# Altium footprint library Библиотека компонентов.PcbLib: 3 footprints
Each footprint in its own frame and in the unit in brackets; x right, y up, seen from the top. Pads: shape width x height; smd on the part's side, far side on the other; paste and mask are expansions set on the pad; w line width, h text height; cw(c..) or ccw(c..) is an arc to the next point about the centre after c.
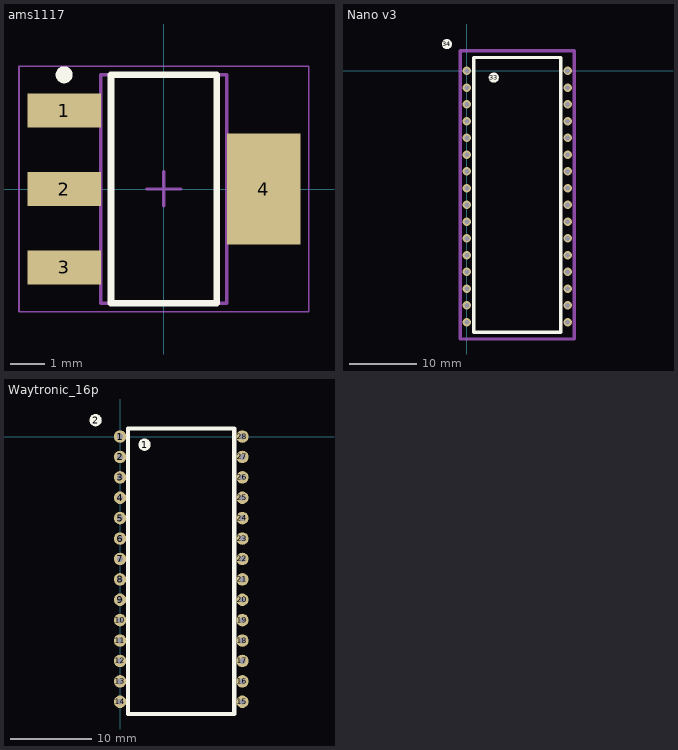
[diagram p0: the footprints below, top view; thin cyan lines are the x and y axes]

## ams1117 [mm] "SOT223, 4-Leads, Body 6,50x7,00mm (avg), Pitch 2,30mm, IPC Medium Density"
height 1.8
pads (4):
  rect 2.15x1 smd: 1(-2.925,2.3) 2(-2.925,0) 3(-2.925,-2.3)
  rect 2.15x3.25 smd: 4(2.925,0)
Top Overlay:
  circle w0.25: c-2.925,3.35 r0.125
  lines w0.2: -1.55,-3.35 1.55,-3.35 1.55,3.35 -1.55,3.35 -1.55,-3.35
Mechanical 13:
  lines w0.1: -1.85,-3.35 1.85,-3.35 1.85,3.35 -1.85,3.35 -1.85,-3.35
Mechanical 15:
  lines w0.05: -4.25,-3.6 4.25,-3.6 4.25,3.6 -4.25,3.6 -4.25,-3.6
  lines w0.1: -0.5,0 0.5,0 ; 0,-0.5 0,0.5
3D body: height 1.8, standoff 0.02, extent -1.85,-3.35 1.85,3.35

## Nano v3 [mil]
pads (2):
  round 60 on Top Overlay: 33(157.48,-39.37) 34(-118.11,157.48)
via 0,0 diameter 50 hole 28
via 0,-98.43 diameter 50 hole 28
via 0,-196.85 diameter 50 hole 28
via 0,-295.28 diameter 50 hole 28
via 0,-393.7 diameter 50 hole 28
via 0,-492.13 diameter 50 hole 28
via 0,-590.55 diameter 50 hole 28
via 0,-688.98 diameter 50 hole 28
via 0,-787.4 diameter 50 hole 28
via 0,-885.83 diameter 50 hole 28
via 0,-984.25 diameter 50 hole 28
via 0,-1082.68 diameter 50 hole 28
via 0,-1181.1 diameter 50 hole 28
via 0,-1279.53 diameter 50 hole 28
via 0,-1377.95 diameter 50 hole 28
via 0,-1476.38 diameter 50 hole 28
via 590.55,0 diameter 50 hole 28
via 590.55,-98.43 diameter 50 hole 28
via 590.55,-196.85 diameter 50 hole 28
via 590.55,-295.28 diameter 50 hole 28
via 590.55,-393.7 diameter 50 hole 28
via 590.55,-492.13 diameter 50 hole 28
via 590.55,-590.55 diameter 50 hole 28
via 590.55,-688.98 diameter 50 hole 28
via 590.55,-787.4 diameter 50 hole 28
via 590.55,-885.83 diameter 50 hole 28
via 590.55,-984.25 diameter 50 hole 28
via 590.55,-1082.68 diameter 50 hole 28
via 590.55,-1181.1 diameter 50 hole 28
via 590.55,-1279.53 diameter 50 hole 28
via 590.55,-1377.95 diameter 50 hole 28
via 590.55,-1476.38 diameter 50 hole 28
Top Overlay:
  lines w19.68: 39.37,-1535.43 39.37,78.74 551.18,78.74 551.18,-1535.43 39.37,-1535.43
Mechanical 1:
  lines w19.68: -39.37,-1574.8 -39.37,118.11 629.92,118.11 629.92,-1574.8 -39.37,-1574.8

## Waytronic_16p [mil]
pads (30):
  round 60 smd: 1(0,0) 2(0,-98.43) 3(0,-196.85) 4(0,-295.28) 5(0,-393.7) 6(0,-492.13) 7(0,-590.55) 8(0,-688.98) 9(0,-787.4) 10(0,-885.83) 11(0,-984.25) 12(0,-1082.68) 13(0,-1181.1) 14(0,-1279.53) 15(590.55,-1279.53) 16(590.55,-1181.1) 17(590.55,-1082.68) 18(590.55,-984.25) 19(590.55,-885.83) 20(590.55,-787.4) 21(590.55,-688.98) 22(590.55,-590.55) 23(590.55,-492.13) 24(590.55,-393.7) 25(590.55,-295.28) 26(590.55,-196.85) 27(590.55,-98.43) 28(590.55,0)
  round 60 on Top Overlay: 1(118.11,-39.37) 2(-118.11,78.74)
via 590.55,0 diameter 50 hole 28
via 590.55,-98.43 diameter 50 hole 28
via 590.55,-196.85 diameter 50 hole 28
via 590.55,-295.28 diameter 50 hole 28
via 590.55,-393.7 diameter 50 hole 28
via 590.55,-492.13 diameter 50 hole 28
via 590.55,-590.55 diameter 50 hole 28
via 590.55,-688.98 diameter 50 hole 28
via 590.55,-787.4 diameter 50 hole 28
via 590.55,-885.83 diameter 50 hole 28
via 590.55,-984.25 diameter 50 hole 28
via 590.55,-1082.68 diameter 50 hole 28
via 590.55,-1181.1 diameter 50 hole 28
via 590.55,-1279.53 diameter 50 hole 28
via 0,-1279.53 diameter 50 hole 28
via 0,-1181.1 diameter 50 hole 28
via 0,-1082.68 diameter 50 hole 28
via 0,-984.25 diameter 50 hole 28
via 0,-885.83 diameter 50 hole 28
via 0,-787.4 diameter 50 hole 28
via 0,-688.98 diameter 50 hole 28
via 0,-590.55 diameter 50 hole 28
via 0,-492.13 diameter 50 hole 28
via 0,-393.7 diameter 50 hole 28
via 0,-295.28 diameter 50 hole 28
via 0,-196.85 diameter 50 hole 28
via 0,-98.43 diameter 50 hole 28
via 0,0 diameter 50 hole 28
Top Overlay:
  lines w19.68: 39.37,-1338.58 551.18,-1338.58 551.18,-1299.21 551.18,39.37 39.37,39.37 39.37,-1338.58